# Altium footprint library Pads.PcbLib: 3 footprints
Each footprint in its own frame and in the unit in brackets; x right, y up, seen from the top. Pads: shape width x height; smd on the part's side, far side on the other; paste and mask are expansions set on the pad; w line width, h text height; cw(c..) or ccw(c..) is an arc to the next point about the centre after c.
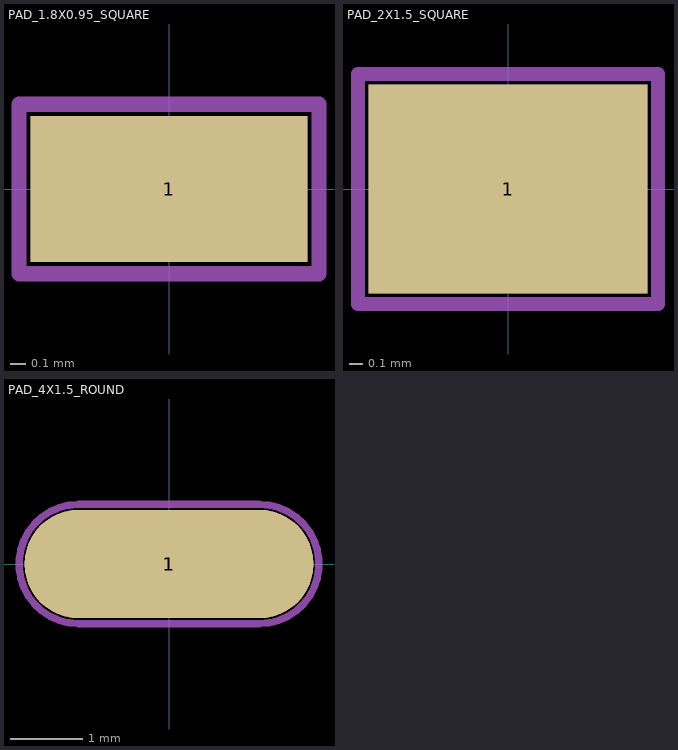
[diagram p0: the footprints below, top view; thin cyan lines are the x and y axes]

## PAD_1.8X0.95_SQUARE [mm]
pads (1):
  rect 1.8x0.95 smd paste-5: 1(0,0)
Top Assembly:
  rectangle: -0.9,-0.475 0.9,0.475
Top Designator:
  text ".Name" at -0.254,1.651 h0.8
Top Courtyard (Mech15):
  lines w0.1: -0.2,0 0.2,0 ; 0,-0.2 0,0.2 ; -0.975,-0.55 0.975,-0.55 0.975,0.55 -0.975,0.55 -0.975,-0.55

## PAD_2X1.5_SQUARE [mm]
pads (1):
  rect 2x1.5 smd paste-5: 1(0,0)
Top Assembly:
  rectangle: -1,-0.75 1,0.75
Top Designator:
  text ".Name" at -0.889,1.27 h0.8
Top Courtyard (Mech15):
  lines w0.1: -0.2,0 0.2,0 ; 0,-0.2 0,0.2 ; -1.075,-0.825 -1.075,0.825 1.075,0.825 1.075,-0.825 -1.075,-0.825

## PAD_4X1.5_ROUND [mm]
pads (2):
  oval 4x1.5 on Mech9 paste-5: 1(0,0)
  oval 4x1.5 smd paste-5: 1(0,0)
Top Designator:
  text ".Name" at -1.016,1.27 h0.8
Top Courtyard (Mech15):
  lines w0.1: -0.25,0 0.25,0 ; 0,-0.25 0,0.25 ; -1.25,-0.825 cw(c-1.25,0) -1.25,0.825 1.25,0.825 cw(c1.25,0) 1.25,-0.825 -1.25,-0.825